# Altium footprint library ABLS_AT49_OSC.PcbLib: 1 footprints
Each footprint in its own frame and in the unit in brackets; x right, y up, seen from the top. Pads: shape width x height; smd on the part's side, far side on the other; paste and mask are expansions set on the pad; w line width, h text height; cw(c..) or ccw(c..) is an arc to the next point about the centre after c.
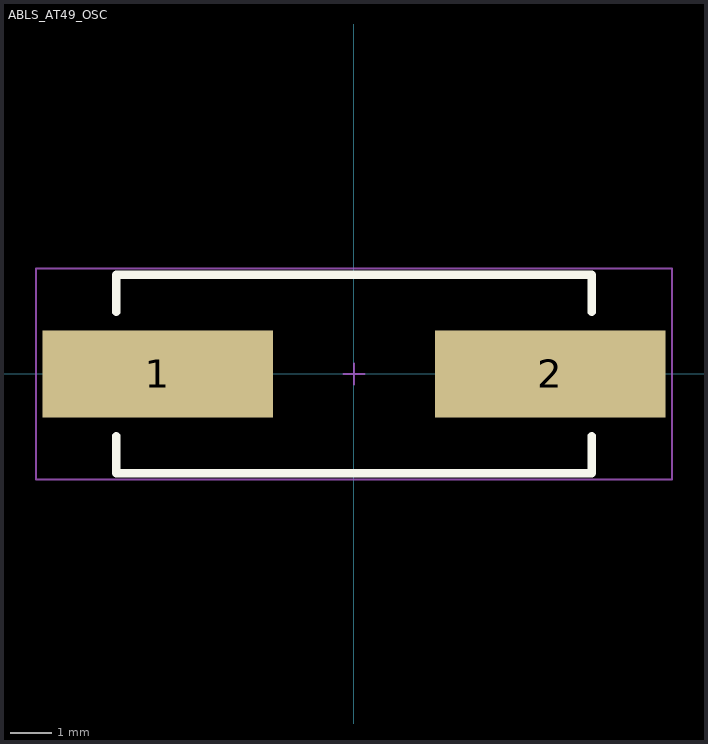
[diagram p0: the footprint, top view; thin cyan lines are the x and y axes]

## ABLS_AT49_OSC [mil] "ABLS Crystal Oscillator"
pads (2):
  rect 220x83 smd: 1(-187.01,0) 2(186.99,0)
Top Overlay:
  lines w8: -226.38,-59.06 -226.38,-94.49 226.38,-94.49 226.38,-59.06 ; -226.38,59.06 -226.38,94.49 226.38,94.49 226.38,59.06
Mechanical 15 (Mech15):
  lines w1.97: -9.84,0 9.84,0 ; 0,-9.84 0,9.84 ; -303.15,-100.39 303.15,-100.39 303.15,100.39 -303.15,100.39 -303.15,-100.39
3D body "Abracon_ABLS.SLDPRT": height 157.48, standoff 0, extent -224.41,-93.5 224.41,93.51